# Altium footprint library Connectors.PcbLib: 14 footprints
Each footprint in its own frame and in the unit in brackets; x right, y up, seen from the top. Pads: shape width x height; smd on the part's side, far side on the other; paste and mask are expansions set on the pad; w line width, h text height; cw(c..) or ccw(c..) is an arc to the next point about the centre after c.
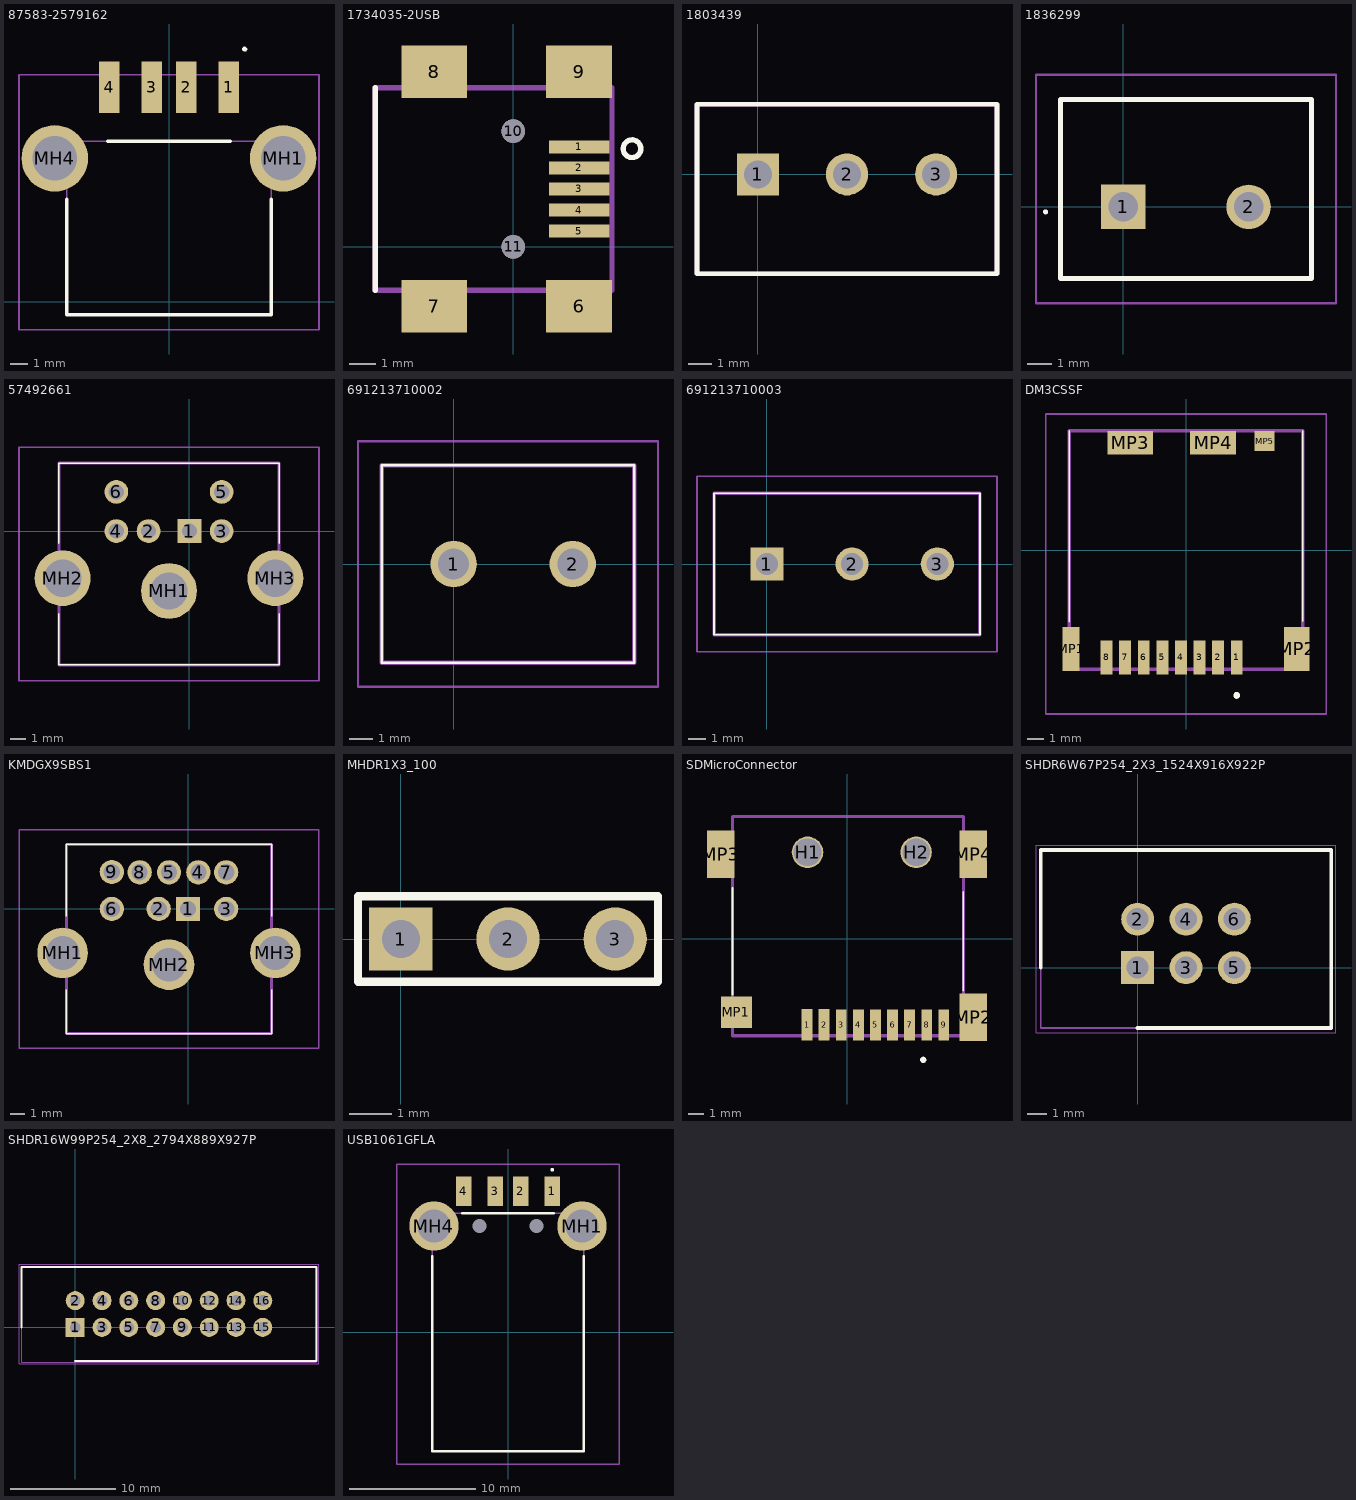
[diagram p0: the footprints below, top view; thin cyan lines are the x and y axes]

## 87583-2579162 [mm] "USB Female Connector"
pads (6):
  rect 1.2x3.048 smd: 1(3.5,12.573) 2(1,12.573) 3(-1,12.573) 4(-3.5,12.573)
  round 3.9 hole 2.6: MH1(6.7,8.4) MH4(-6.7,8.4)
Top Overlay:
  lines w0.2: -6,6 -6,-0.762 6,-0.762 6,6 ; -3.6,9.4 3.6,9.4 ; 4.445,14.859 ccw(c4.445,14.809) 4.495,14.809
Mechanical 15:
  lines w0.1: -6,-0.762 -6,9.4 6,9.4 6,-0.762 -6,-0.762
Mechanical 20:
  lines w0.1: -8.8,-1.651 8.8,-1.651 8.8,13.3 -8.8,13.3 -8.8,-1.651
3D body "87583-3010RPLF.stp": height 7.74, standoff -2.63, extent -7.377,-1.651 7.123,13.232

## 1734035-2USB [mm]
pads (11):
  rect 2.3x0.5 smd: 1(2.5,3.8) 2(2.5,3) 3(2.5,2.2) 4(2.5,1.4) 5(2.5,0.6)
  rect 2.5x2 smd: 6(2.5,-2.25) 7(-3,-2.25) 8(-3,6.65) 9(2.5,6.65)
  round 0.9 hole 0.9 unplated: 10(0,4.4) 11(0,0)
Top Overlay:
  circle w0.2: c4.512,3.731 r0.336
  lines w0.2: -5.25,-1.65 -5.25,6.05
Mechanical 13:
  lines w0.2: -5.25,-1.65 -5.25,6.05 3.75,6.05 3.75,-1.65 -5.25,-1.65
3D body "1734035-4.stp": height 4.17, standoff -0.92, extent -6.35,-2.791 2.85,7.109

## 1803439 [mm]
pads (3):
  rect 1.8x1.8 hole 1.2: 1(0,0)
  round 1.8 hole 1.2: 2(3.81,0) 3(7.62,0)
Top Overlay:
  lines w0.2: -2.6,-4.25 10.22,-4.25 10.22,3 -2.6,3 -2.6,-4.25
Mechanical 13:
  lines w0.2: -2.6,-4.25 10.22,-4.25 10.22,3 -2.6,3 -2.6,-4.25
3D body "1803439.stp": height 9.33, standoff -3.27, extent -2.599,-4.454 10.221,3.046

## 1836299 [mm]
pads (2):
  rect 1.8x1.8 hole 1.2: 1(0,0)
  round 1.8 hole 1.2: 2(5.08,0)
Top Overlay:
  lines w0.1: -3.2,-0.2 ccw(c-3.15,-0.2) -3.1,-0.2 ccw(c-3.15,-0.2) -3.2,-0.2
  lines w0.2: -2.54,-2.9 7.62,-2.9 7.62,4.35 -2.54,4.35 -2.54,-2.9
Mechanical 15:
  lines w0.1: -2.54,-2.9 7.62,-2.9 7.62,4.35 -2.54,4.35 -2.54,-2.9
Mechanical 20:
  lines w0.1: -3.54,-3.9 8.62,-3.9 8.62,5.35 -3.54,5.35 -3.54,-3.9
3D body "1836299.stp": height 9.2, standoff -3.4, extent -2.413,-2.921 7.747,4.329

## 57492661 [mm]
pads (9):
  rect 1.509x1.509 hole 0.97: 1(0,0)
  round 1.509 hole 0.97: 2(-2.6,0) 3(2.05,0) 4(-4.65,0) 5(2.05,2.49) 6(-4.65,2.49)
  round 3.555 hole 2.37: MH1(-1.3,-3.81) MH2(-8.06,-3) MH3(5.46,-3)
Top Overlay:
  lines w0.1: -8.3,-8.51 -8.3,-5.26 -8.3,-8.51 ; -8.3,-8.51 5.7,-8.51 ; -8.3,-8.51 5.7,-8.51 ; -8.3,4.32 5.7,4.32 ; -8.3,4.32 5.7,4.32 ; -8.3,4.32 -8.3,-0.76 -8.3,4.32 ; 5.7,-8.51 5.7,-5.26 5.7,-8.51 ; 5.7,4.32 5.7,-0.76 5.7,4.32
Mechanical 15:
  lines w0.2: -8.3,-8.51 5.7,-8.51 5.7,4.32 -8.3,4.32 -8.3,-8.51
Mechanical 20:
  lines w0.1: -10.838,-9.51 8.238,-9.51 8.238,5.32 -10.838,5.32 -10.838,-9.51
3D body "5749266-1.stp": height 6.55, standoff -9.96, extent -8.27,-8.636 5.73,4.191

## 691213710002 [mm]
pads (2):
  round 1.95 hole 1.3: 1(0,0) 2(5,0)
Top Overlay:
  lines w0.1: -3.02,-4.15 -3.02,4.15 7.58,4.15 7.58,-4.15 -3.02,-4.15
Mechanical 15:
  lines w0.2: -3.02,-4.15 -3.02,4.15 7.58,4.15 7.58,-4.15 -3.02,-4.15
Mechanical 20:
  lines w0.1: -4.02,-5.15 -4.02,5.15 8.58,5.15 8.58,-5.15 -4.02,-5.15
3D body "691213710002.stp": height 10.3, standoff -5, extent -3.02,-4.15 7.58,4.15

## 691213710003 [mm]
pads (3):
  rect 1.95x1.95 hole 1.3: 1(0,0)
  round 1.95 hole 1.3: 2(5,0) 3(10,0)
Top Overlay:
  lines w0.1: -3.1,-4.15 12.5,-4.15 12.5,4.15 -3.1,4.15 -3.1,-4.15
Mechanical 15:
  lines w0.2: -3.1,-4.15 12.5,-4.15 12.5,4.15 -3.1,4.15 -3.1,-4.15
Mechanical 20:
  lines w0.1: -4.1,-5.15 13.5,-5.15 13.5,5.15 -4.1,5.15 -4.1,-5.15
3D body "691213710003.stp": height 10.1, standoff -5, extent -3.1,-4.15 12.5,4.15

## DM3CSSF [mm]
pads (13):
  rect 0.7x2 smd: 1(3,-6.35) 2(1.9,-6.35) 3(0.8,-6.35) 4(-0.3,-6.35) 5(-1.4,-6.35) 6(-2.5,-6.35) 7(-3.6,-6.35) 8(-4.7,-6.35)
  rect 1x2.6 smd: MP1(-6.8,-5.85)
  rect 1.5x2.6 smd: MP2(6.55,-5.85)
  rect 2.7x1.4 smd: MP3(-3.3,6.35) MP4(1.6,6.35)
  rect 1.2x1.2 smd: MP5(4.65,6.45)
Top Overlay:
  lines w0.1: -6.9,-4.224 -6.9,7.05 ; 6.9,-4.216 6.9,7.05
  lines w0.2: 3,-8.7 cw(c3,-8.6) 3,-8.5 cw(c3,-8.6) 3,-8.7
Mechanical 15:
  lines w0.2: -6.9,-7.05 6.9,-7.05 6.9,7.05 -6.9,7.05 -6.9,-7.05
Mechanical 20:
  lines w0.1: -8.3,-9.7 8.3,-9.7 8.3,8.05 -8.3,8.05 -8.3,-9.7
3D body "DM3CS-SF.stp": height 5.8, standoff -4.65, extent -10,-3.376 10,3.376

## KMDGX9SBS1 [mm]
pads (12):
  rect 1.65x1.65 hole 1.1: 1(0,0)
  round 1.65 hole 1.1: 2(-2,0) 3(2.6,0) 4(0.7,2.5) 5(-1.3,2.5) 6(-5.2,0) 7(2.6,2.5) 8(-3.3,2.5) 9(-5.2,2.52)
  round 3.45 hole 2.3: MH1(-8.55,-3) MH2(-1.3,-3.8) MH3(5.95,-3)
Top Overlay:
  lines w0.1: -8.3,-5.5 -8.3,-8.5 5.7,-8.5 5.7,-5.5 ; -8.3,-0.5 -8.3,4.4 5.7,4.4 5.7,-0.5
Mechanical 15:
  lines w0.2: -8.3,-8.5 -8.3,4.4 5.7,4.4 5.7,-8.5 -8.3,-8.5
Mechanical 20:
  lines w0.1: -11.525,-9.5 -11.525,5.4 8.925,5.4 8.925,-9.5 -11.525,-9.5
3D body "KMDGX-9S-BS-1.stp": height 13.1, standoff -5, extent -9.592,-8.5 7,4.4

## MHDR1X3_100 [mm] "Connector; Header; 3 Position"
pads (3):
  rect 1.5x1.5 hole 0.9: 1(0,0)
  round 1.5 hole 0.9: 2(2.54,0) 3(5.08,0)
Top Overlay:
  lines w0.2: -1.016,-1.016 6.096,-1.016 6.096,1.016 -1.016,1.016 -1.016,-1.016

## SDMicroConnector [mm]
pads (15):
  rect 0.7x2 smd: 1(-2.571,-5.542) 2(-1.471,-5.542) 3(-0.371,-5.549) 4(0.729,-5.549) 5(1.829,-5.549) 6(2.929,-5.549) 7(4.029,-5.549) 8(5.129,-5.549) 9(6.223,-5.549)
  round 2.032 hole 1.778: H1(-2.54,5.55) H2(4.445,5.55)
  rect 2x2 smd: MP1(-7.112,-4.737)
  rect 1.778x3.048 smd: MP2(8.128,-5.049) MP3(-8.128,5.423) MP4(8.128,5.423)
Top Overlay:
  lines w0.1: -7.366,-3.594 -7.366,3.264 ; 7.493,-3.34 7.493,3.01
  lines w0.2: 4.903,-7.899 cw(c4.903,-7.799) 4.903,-7.699 cw(c4.903,-7.799) 4.903,-7.899
Mechanical 15:
  lines w0.2: -7.366,-6.249 -7.366,7.851 7.493,7.851 7.493,-6.249 -7.366,-6.249
3D body "DM3CS-SF.stp": height 5.8, standoff -4.65, extent -9.619,-2.98 10.381,3.772

## SHDR6W67P254_2X3_1524X916X922P [mm]
pads (6):
  rect 1.725x1.725 / inner round 1.725 / far side rect 1.725x1.725 hole 1.15: 1(0,0)
  round 1.725 hole 1.15: 2(0,2.54) 3(2.54,0) 4(2.54,2.54) 5(5.08,0) 6(5.08,2.54)
Top Overlay:
  lines w0.2: -5.08,0 -5.08,6.175 10.16,6.175 10.16,-3.175 0,-3.175
Mechanical 15:
  lines w0.1: -5.08,-3.175 -5.08,6.175 10.16,6.175 10.16,-3.175 -5.08,-3.175
Mechanical 20:
  lines w0.05: -5.33,-3.425 -5.33,6.425 10.41,6.425 10.41,-3.425 -5.33,-3.425
3D body "1761681-1.stp": height 9.78, standoff -2.34, extent -5.08,-3.302 10.16,5.918

## SHDR16W99P254_2X8_2794X889X927P [mm]
pads (16):
  rect 1.8x1.8 / inner round 1.8 / far side rect 1.8x1.8 hole 1.016: 1(0,0)
  round 1.8 hole 1.016: 2(0,2.54) 3(2.54,0) 4(2.54,2.54) 5(5.08,0) 6(5.08,2.54) 7(7.62,0) 8(7.62,2.54) 9(10.16,0) 10(10.16,2.54) 11(12.7,0) 12(12.7,2.54) 13(15.24,0) 14(15.24,2.54) 15(17.78,0) 16(17.78,2.54)
Top Overlay:
  lines w0.2: -5.08,0 -5.08,5.715 22.86,5.715 22.86,-3.175 0,-3.175
Mechanical 15:
  lines w0.1: -5.08,-3.302 22.86,-3.302 22.86,5.715 -5.08,5.715 -5.08,-3.302
Mechanical 20:
  lines w0.05: -5.33,-3.425 23.11,-3.425 23.11,5.965 -5.33,5.965 -5.33,-3.425
3D body "70246-1604.stp": height 8.38, standoff -4.32, extent -5.08,-3.175 22.86,5.715

## USB1061GFLA [mm]
pads (8):
  rect 1.2x2.3 smd: 1(3.5,11.15) 2(1,11.15) 3(-1,11.15) 4(-3.5,11.15)
  round 3.9 hole 2.6: MH1(5.85,8.4) MH4(-5.85,8.4)
  round 0.55 hole 1.1 unplated: MH2(2.25,8.4) MH3(-2.25,8.4)
Top Overlay:
  lines w0.2: -6,6 -6,-9.4 6,-9.4 6,6 ; -3.6,9.4 3.6,9.4 ; 3.5,12.8 cw(c3.5,12.85) 3.5,12.9 ; 3.5,12.8 ccw(c3.5,12.85) 3.5,12.9 ; 3.5,12.8 cw(c3.5,12.85) 3.5,12.9
Mechanical 15:
  lines w0.1: -6,-9.4 -6,9.4 6,9.4 6,-9.4 -6,-9.4
Mechanical 20:
  lines w0.1: -8.8,-10.4 -8.8,13.3 8.8,13.3 8.8,-10.4 -8.8,-10.4
3D body "USB1061-GF-L-A.stp": height 3.06, standoff -2.89, extent -6.341,-9.878 6.35,11.402